# Altium schematic symbol library PTS647SN50SMTR2LFS.SchLib: 1 symbol
Pins are listed as number, name and electrical type; pins without a type are passive.

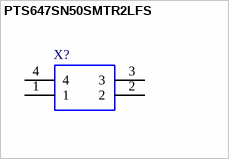
[diagram p0: symbol PTS647SN50SMTR2LFS]

## PTS647SN50SMTR2LFS
designator X?
Tactile Switches 50mA 12VDC, 1.0N 5.0mm H, G leads; Manufacturer_Name: C & K COMPONENTS; Geometry.Height: 5mm; Mouser Part Number: 611-PTS647SN50SMTR2L; Mouser Price/Stock: https://www.mouser.co.uk/ProductDetail/CK/PTS647SN50SMTR2LFS?qs=PqoDHHvF649f0IHjdDfo1A%3D%3D; Manufacturer_Part_Number: PTS647SN50SMTR2LFS; Datasheet Link: https://www.ckswitches.com/media/2567/pts647.pdf
footprint PTS647SN50SMTR2LFS
pins: 1, 2, 3, 4